# EAGLE library part FENIXPOWERBACKPACK (library EurorackModularParts)
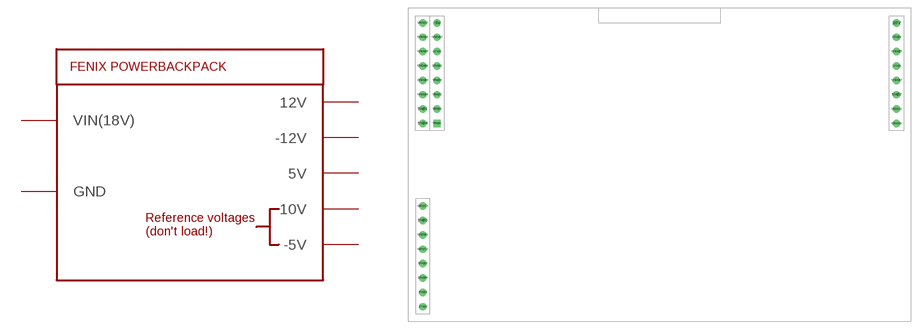
[diagram p31: symbol with the pads of FENIXPOWERBACKPACK; footprint FENIXPOWERBACKPACK]

Designator prefix -

## FENIXPOWERBACKPACK  [FENIXPOWERBACKPACK]
5V@1  5V
5V@2  5V
5V@3  5V
5V@4  5V
10V  10V
10V@2  10V
12V@1  12V
12V@2  12V
12V@4  12V
-5V  -5V
-5V@2  -5V
-12V@1  -12V
-12V@2  -12V
-12V@3  -12V
GND@1  GND
GND@2  GND
GND@3  GND
GND@4  GND
GND@5  GND
GND@6  GND
GND@7  GND
GND@8  GND
GND@9  GND
GND@10  GND
GND@11  GND
GND@12  GND
GND@13  GND
GND@14  GND
VIN@1  VIN(18V)
VIN@2  VIN(18V)
VIN@3  VIN(18V)
VIN@4  VIN(18V)

## FENIXPOWERBACKPACK_MODULE  [FENIXPOWERBACKPACK]
Pads as for FENIXPOWERBACKPACK

## Footprint FENIXPOWERBACKPACK (pad centres in mm)
drill 0.8: 5V@1 2.54,44.45; 5V@2 86.36,46.99; 5V@3 2.54,24.765; 5V@4 2.54,41.91; 10V 86.36,59.69; 10V@2 2.54,17.145; 12V@1 86.36,57.15; 12V@2 5.08,52.07; 12V@4 2.54,14.605; -5V 5.08,59.69; -5V@2 2.54,12.065; -12V@1 86.36,52.07; -12V@2 5.08,54.61; -12V@3 2.54,9.525; GND@1 2.54,22.225; GND@2 5.08,57.15; GND@3 2.54,46.99; GND@4 2.54,49.53; GND@5 86.36,54.61; GND@6 2.54,52.07; GND@7 86.36,49.53; GND@8 2.54,54.61; GND@9 2.54,57.15; GND@10 2.54,59.69; GND@11 86.36,44.45; GND@12 86.36,41.91; GND@13 2.54,19.685; GND@14 2.54,27.305; VIN@2 5.08,44.45; VIN@3 5.08,46.99; VIN@4 5.08,49.53
drill 0.8 square: VIN@1 5.08,41.91